# Altium footprint library PCB库a.PcbLib: 34 footprints (part 1 of 3)
Each footprint in its own frame and in the unit in brackets; x right, y up, seen from the top. Pads: shape width x height; smd on the part's side, far side on the other; paste and mask are expansions set on the pad; w line width, h text height; cw(c..) or ccw(c..) is an arc to the next point about the centre after c.
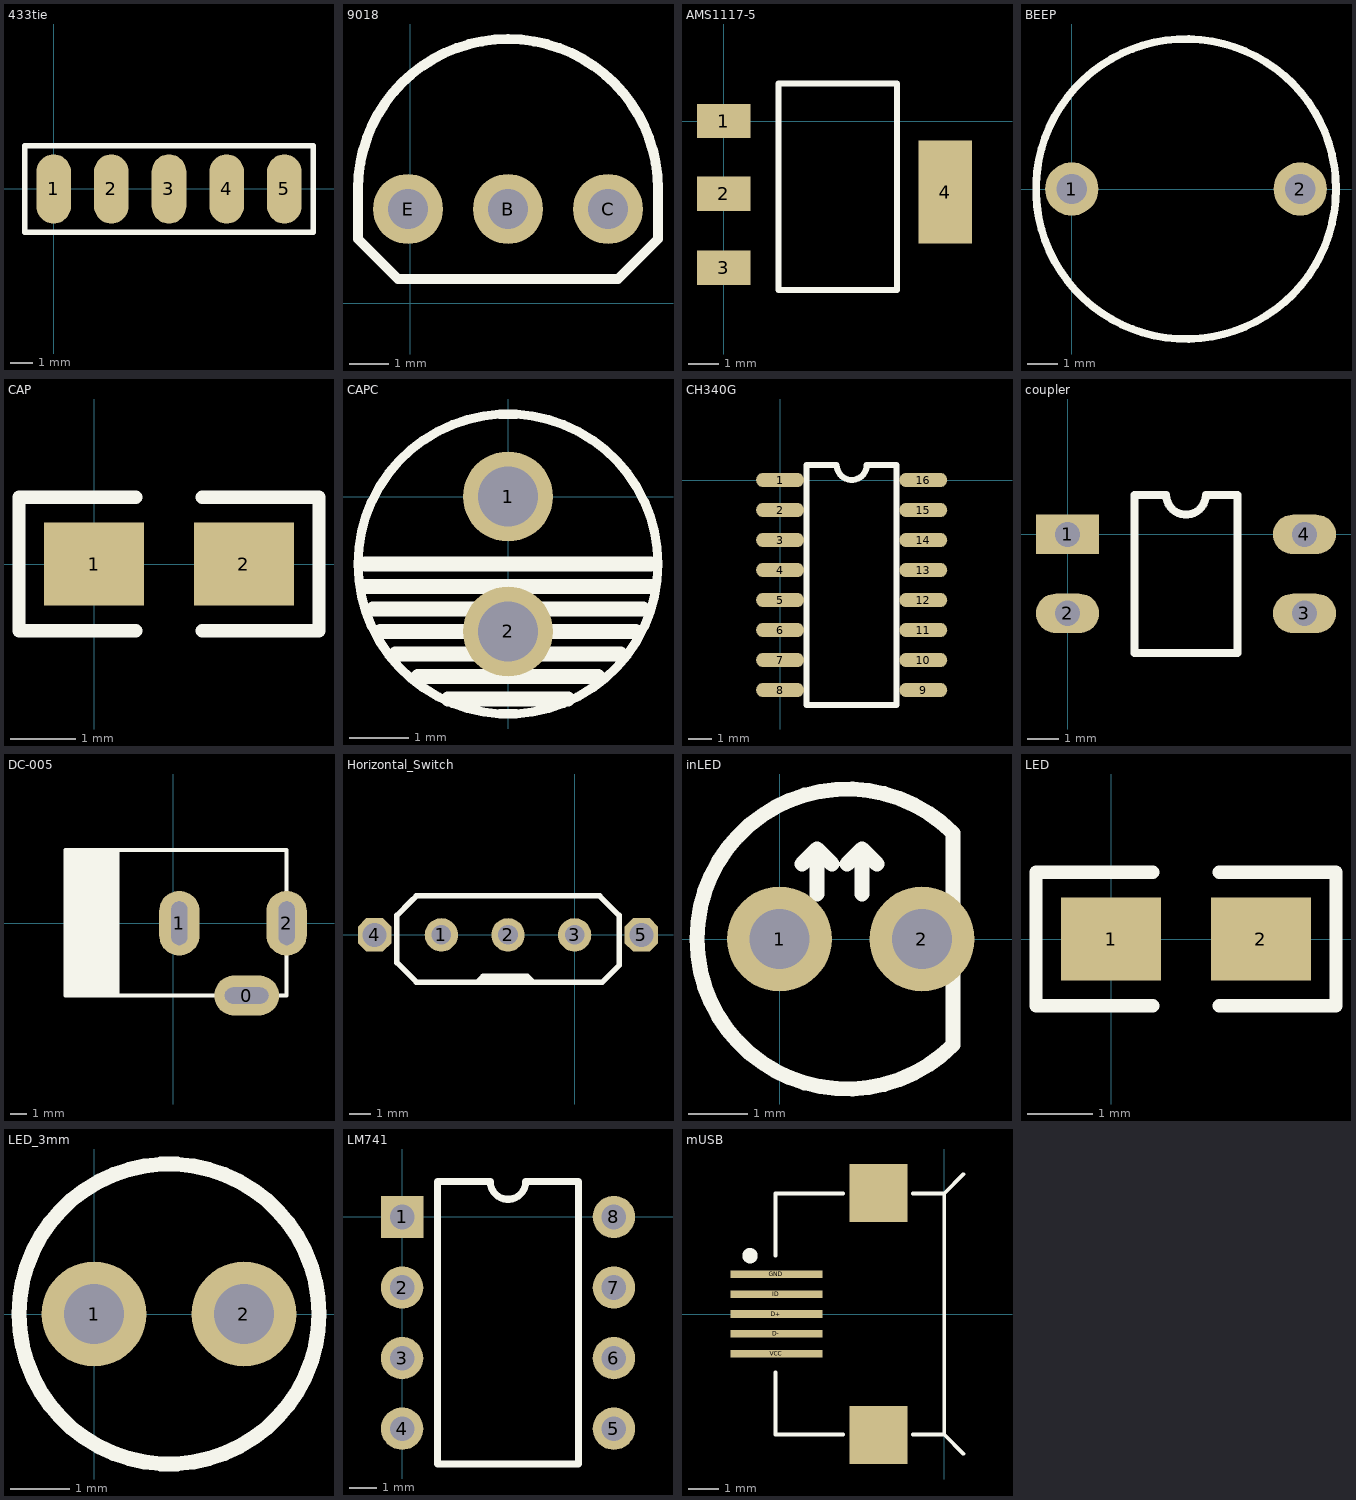
[diagram p0: the footprints below, top view; thin cyan lines are the x and y axes]

## 433tie [mil]
pads (5):
  oval 60x120 smd: 1(0,0) 2(100,0) 3(200,0) 4(300,0) 5(400,0)
Top Overlay:
  lines w10: -50,-75 -50,75 450,75 450,-75 -50,-75

## 9018 [mil]
pads (3):
  round 70 hole 40: B(98,94) C(198,94) E(-2,94)
Top Overlay:
  lines w10: -52,64 -12,24 208,24 248,64 248,114 ccw(c98,114) -52,114 -52,64

## AMS1117-5 [mil]
pads (4):
  rect 70x45 smd: 1(0,0) 2(0,-95.04) 3(0,-192)
  rect 70x135 smd: 4(290.35,-92.95)
Top Overlay:
  lines w8: 71.65,-221.02 226.65,-221.02 226.65,48.98 71.65,48.98 71.65,-221.02

## BEEP [mil]
pads (2):
  round 70 hole 40: 1(0,0) 2(300,0)
Top Overlay:
  circle w10: c150,0 r196.85

## CAP [mil]
pads (2):
  rect 60x50 smd: 1(0,0) 2(90,0)
Top Overlay:
  lines w8: 25,-40 -45,-40 -45,40 25,40 ; 65,-40 135,-40 135,40 65,40

## CAPC [mil]
pads (2):
  round 60 hole 40: 1(0,0) 2(0,-90)
Top Overlay:
  circle w6.06: c0,-45 r100
  lines w10: -95,-60 95,-60 ; -95,-45 95,-45 ; -90,-75 90,-75 ; -85,-90 85,-90 ; -75,-105 75,-105 ; -60,-120 60,-120 ; -40,-135 40,-135

## CH340G [mil] "CH340G"
pads (16):
  oval 80x24 smd: 1(0,0) 2(0,-50) 3(0,-100) 4(0,-150) 5(0,-200) 6(0,-250) 7(0,-300) 8(0,-350) 9(238.5,-350) 10(238.5,-300) 11(238.5,-250) 12(238.5,-200) 13(238.5,-150) 14(238.5,-100) 15(238.5,-50) 16(238.5,0)
Top Overlay:
  lines w10: 44.25,-375 194.25,-375 194.25,25 144.25,25 cw(c119.25,25) 94.25,25 44.25,25 44.25,-375

## coupler [mil]
pads (4):
  rect 80x50 hole 32: 1(0,0)
  oval 80x50 hole 32: 2(0,-100) 3(300,-100) 4(300,0)
Top Overlay:
  lines w10: 85,-150 215,-150 215,50 175,50 cw(c150,50) 125,50 85,50 85,-150

## DC-005 [mm]
pads (3):
  oval 4x2.5 hole 1 slot 2.7 at 0 deg: 0(4.547,-4.47)
  oval 2.5x4 hole 1 slot 2.7 at 90 deg: 1(0.381,0) 2(7.018,0)
Top Overlay:
  region: -3.429,-4.47 -3.429,4.521 -6.647,4.521 -6.647,-4.47
  lines w0.254: -3.454,-4.47 -3.454,4.521 ; -6.647,-4.47 -6.647,0.025 -6.647,4.521 7.018,4.521 7.018,0 7.018,-4.47 -6.647,-4.47

## Horizontal_Switch [mil]
pads (5):
  round 60 hole 35.43: 1(-240,0) 2(-120,0) 3(0,0)
  oct 60x60 hole 43.31: 4(-360,0) 5(120,0)
Top Overlay:
  lines w10: -175,-85 -165,-75 -160,-75 -85,-75 -75,-85 ; -320,-50 -320,35 -295,60 -285,70 45,70 80,35 80,-55 50,-85 -33.75,-85 -201.25,-85 -285,-85 -320,-50

## inLED [mil]
pads (2):
  round 70 hole 40: 1(0,0) 2(95,0)
Top Overlay:
  lines w10: 15,50 25,60 ; 25,30 25,60 ; 35,50 25,60 ; 45,50 55,60 ; 55,30 55,60 ; 65,50 55,60 ; 115.71,-70.71 cw(c45,0) 115.71,70.71 115.71,-70.71

## LED [mil]
pads (2):
  rect 60x50 smd: 1(0,0) 2(90,0)
Top Overlay:
  lines w8: 25,-40 -45,-40 -45,40 25,40 ; 65,-40 135,-40 135,40 65,40

## LED_3mm [mil]
pads (2):
  round 70 hole 40: 1(0,0) 2(100,0)
Top Overlay:
  circle w10: c50,0 r100

## LM741 [mil]
pads (8):
  rect 60x60 hole 35: 1(0,0)
  round 60 hole 35: 2(0,-100) 3(0,-200) 4(0,-300) 5(300,-300) 6(300,-200) 7(300,-100) 8(300,0)
Top Overlay:
  lines w10: 50,-350 250,-350 250,50 175,50 cw(c150,50) 125,50 50,50 50,-350

## mUSB [mm]
pads (7):
  rect 3x0.25 smd: D+(-5.486,0) D-(-5.486,-0.65) GND(-5.486,1.3) ID(-5.486,0.65) VCC(-5.486,-1.3)
  rect 1.9x1.9 smd: ""(-2.15,-3.95) ""(-2.15,3.95)
Top Overlay:
  circle w0.25: c-6.348,1.905 r0.125
  lines w0.127: -5.508,-3.937 -3.302,-3.937 ; -5.508,-3.9 -5.508,-1.905 ; -5.508,1.905 -5.508,3.9 ; -5.508,3.937 -3.302,3.937 ; -1.016,-3.937 0,-3.937 0.63,-4.567 ; -1.016,3.937 0,3.937 0.63,4.567 ; 0,-3.9 0,3.9

## PCBComponent_1 [mil]